# Altium integrated library TI Communication Interface.IntLib: 20 symbols
Pins are listed as number, name and electrical type; pins without a type are passive.

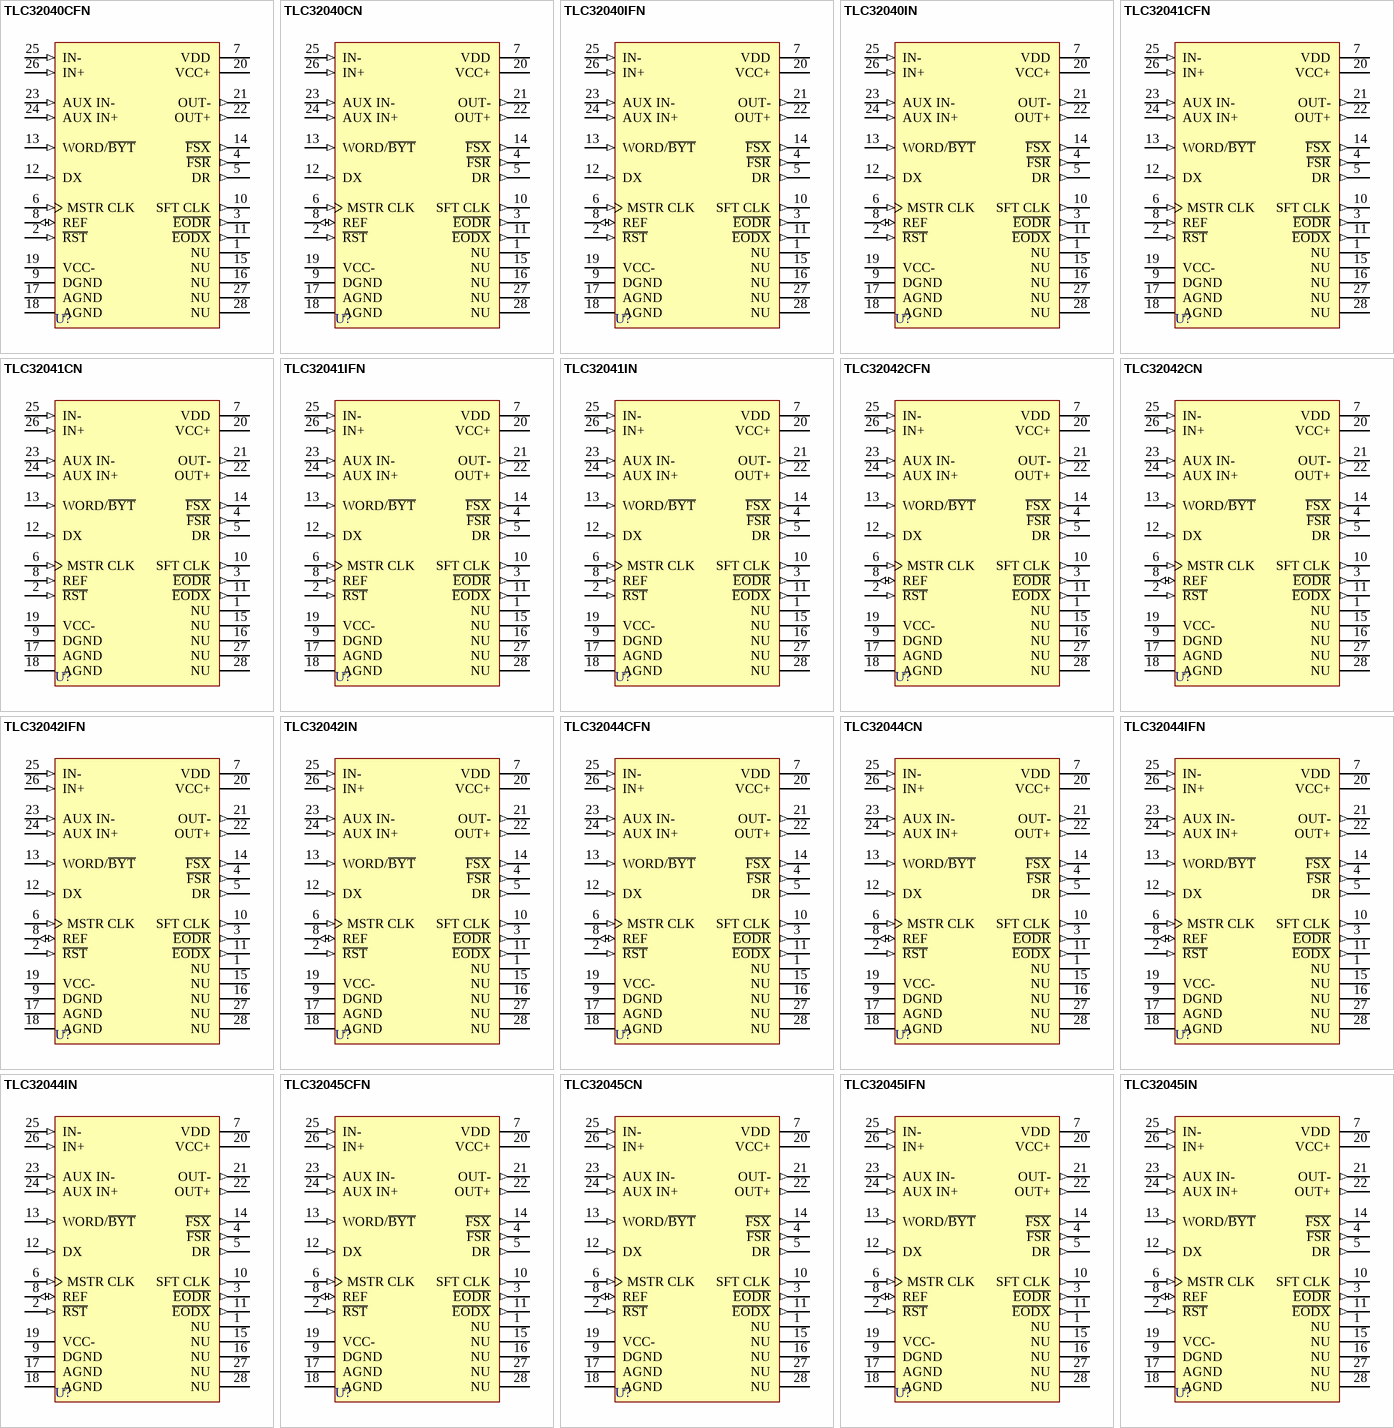
[diagram p0: symbols TLC32040CFN to TLC32045IN]

## TLC32040CFN
designator U?
Analog Interface Circuit; Note: Pins 1, 15, 16, 27 & 28 are nonusable, do not connect.; ComponentAvailability: Obsolete; Published: 15-Apr-2002; LatestRevisionDate: 13-Apr-2006; LatestRevisionNote: IPC-7351 Footprint Added.; DatasheetVersion: Sep-1988; PackageVersion: Oct-1994; PackageReference: FN028; Publisher: Altium Limited; PackageDescription: 28-Pin Leaded Chip Carrier 1.27 mm Pitch; Code_JEDEC: MS-018; Code_IPC: PLCC-28; ComponentLink1Description: Manufacturer Link; ComponentLink1URL: http://www.ti.com/; ComponentLink2Description: Datasheet; ComponentLink2URL: http://www-s.ti.com/sc/ds/tlc32040.pdf
footprint FN028_N (Leaded Chip Carrier, 28-Leads, Body 11.5x11.5mm, Pitch 1.27mm, IPC Medium Density)
footprint FN028_L (Leaded Chip Carrier, 28-Leads, Body 11.5x11.5mm, Pitch 1.27mm, IPC High Density)
footprint FN028_M (Leaded Chip Carrier, 28-Leads, Body 11.5x11.5mm, Pitch 1.27mm, IPC Low Density)
3D model TLC32040-FN028 (28-Pin Leaded Chip Carrier 1.27 mm Pitch)
pins: 1 NU, 2 ~{RST} (in), 3 ~{EODR} (out), 4 ~{FSR} (out), 5 DR (out), 6 MSTR CLK (in), 7 VDD (power), 8 REF (io), 9 DGND (power), 10 SFT CLK (out), 11 ~{EODX} (out), 12 DX (in), 13 WORD/~{BYT} (in), 14 ~{FSX} (out), 15 NU, 16 NU, 17 AGND (power), 18 AGND (power), 19 VCC- (power), 20 VCC+ (power), 21 OUT- (out), 22 OUT+ (out), 23 AUX IN- (in), 24 AUX IN+ (in), 25 IN- (in), 26 IN+ (in), 27 NU, 28 NU

## TLC32040CN
designator U?
Analog Interface Circuit; Note: Pins 1, 15, 16, 27 & 28 are nonusable, do not connect.; ComponentAvailability: Obsolete; Published: 15-Apr-2002; LatestRevisionDate: 08-Jul-2005; LatestRevisionNote: Stylized 3D Model Added.; DatasheetVersion: Sep-1988; PackageVersion: Oct-1994; PackageReference: N028; Publisher: Altium Limited; PackageDescription: DIP; 28 Leads; Row Spacing 15.24 mm; Pitch 2.54 mm; ComponentLink1Description: Manufacturer Link; ComponentLink1URL: http://www.ti.com/; ComponentLink2Description: Datasheet; ComponentLink2URL: http://www-s.ti.com/sc/ds/tlc32040.pdf
footprint N028 (DIP; 28 Leads; Row Spacing 15.24 mm; Pitch 2.54 mm)
3D model N028 (DIP; 28 Leads; Row Spacing 15.24 mm; Pitch 2.54 mm)
pins: 1 NU, 2 ~{RST} (in), 3 ~{EODR} (out), 4 ~{FSR} (out), 5 DR (out), 6 MSTR CLK (in), 7 VDD (power), 8 REF (io), 9 DGND (power), 10 SFT CLK (out), 11 ~{EODX} (out), 12 DX (in), 13 WORD/~{BYT} (in), 14 ~{FSX} (out), 15 NU, 16 NU, 17 AGND (power), 18 AGND (power), 19 VCC- (power), 20 VCC+ (power), 21 OUT- (out), 22 OUT+ (out), 23 AUX IN- (in), 24 AUX IN+ (in), 25 IN- (in), 26 IN+ (in), 27 NU, 28 NU

## TLC32040IFN
designator U?
Analog Interface Circuit; Note: Pins 1, 15, 16, 27 & 28 are nonusable, do not connect.; Published: 15-Apr-2002; LatestRevisionDate: 13-Apr-2006; LatestRevisionNote: IPC-7351 Footprint Added.; DatasheetVersion: Sep-1988; PackageVersion: Oct-1994; PackageReference: FN028; Publisher: Altium Limited; PackageDescription: 28-Pin Leaded Chip Carrier 1.27 mm Pitch; Code_JEDEC: MS-018; Code_IPC: PLCC-28; ComponentLink1Description: Manufacturer Link; ComponentLink1URL: http://www.ti.com/; ComponentLink2Description: Datasheet; ComponentLink2URL: http://www-s.ti.com/sc/ds/tlc32040.pdf
footprint FN028_N (Leaded Chip Carrier, 28-Leads, Body 11.5x11.5mm, Pitch 1.27mm, IPC Medium Density)
footprint FN028_L (Leaded Chip Carrier, 28-Leads, Body 11.5x11.5mm, Pitch 1.27mm, IPC High Density)
footprint FN028_M (Leaded Chip Carrier, 28-Leads, Body 11.5x11.5mm, Pitch 1.27mm, IPC Low Density)
3D model TLC32040-FN028 (28-Pin Leaded Chip Carrier 1.27 mm Pitch)
pins: 1 NU, 2 ~{RST} (in), 3 ~{EODR} (out), 4 ~{FSR} (out), 5 DR (out), 6 MSTR CLK (in), 7 VDD (power), 8 REF (io), 9 DGND (power), 10 SFT CLK (out), 11 ~{EODX} (out), 12 DX (in), 13 WORD/~{BYT} (in), 14 ~{FSX} (out), 15 NU, 16 NU, 17 AGND (power), 18 AGND (power), 19 VCC- (power), 20 VCC+ (power), 21 OUT- (out), 22 OUT+ (out), 23 AUX IN- (in), 24 AUX IN+ (in), 25 IN- (in), 26 IN+ (in), 27 NU, 28 NU

## TLC32040IN
designator U?
Analog Interface Circuit; Note: Pins 1, 15, 16, 27 & 28 are nonusable, do not connect.; ComponentAvailability: Obsolete; Published: 15-Apr-2002; LatestRevisionDate: 08-Jul-2005; LatestRevisionNote: Stylized 3D Model Added.; DatasheetVersion: Sep-1988; PackageVersion: Oct-1994; PackageReference: N028; Publisher: Altium Limited; PackageDescription: DIP; 28 Leads; Row Spacing 15.24 mm; Pitch 2.54 mm; ComponentLink1Description: Manufacturer Link; ComponentLink1URL: http://www.ti.com/; ComponentLink2Description: Datasheet; ComponentLink2URL: http://www-s.ti.com/sc/ds/tlc32040.pdf
footprint N028 (DIP; 28 Leads; Row Spacing 15.24 mm; Pitch 2.54 mm)
3D model N028 (DIP; 28 Leads; Row Spacing 15.24 mm; Pitch 2.54 mm)
pins: 1 NU, 2 ~{RST} (in), 3 ~{EODR} (out), 4 ~{FSR} (out), 5 DR (out), 6 MSTR CLK (in), 7 VDD (power), 8 REF (io), 9 DGND (power), 10 SFT CLK (out), 11 ~{EODX} (out), 12 DX (in), 13 WORD/~{BYT} (in), 14 ~{FSX} (out), 15 NU, 16 NU, 17 AGND (power), 18 AGND (power), 19 VCC- (power), 20 VCC+ (power), 21 OUT- (out), 22 OUT+ (out), 23 AUX IN- (in), 24 AUX IN+ (in), 25 IN- (in), 26 IN+ (in), 27 NU, 28 NU

## TLC32041CFN
designator U?
Analog Interface Circuit; Note: Pins 1, 15, 16, 27 & 28 are nonusable, do not connect.; Published: 15-Apr-2002; LatestRevisionDate: 13-Apr-2006; LatestRevisionNote: IPC-7351 Footprint Added.; DatasheetVersion: Sep-1988; PackageVersion: Oct-1994; PackageReference: FN028; Publisher: Altium Limited; PackageDescription: 28-Pin Leaded Chip Carrier 1.27 mm Pitch; Code_JEDEC: MS-018; Code_IPC: PLCC-28; ComponentLink1Description: Manufacturer Link; ComponentLink1URL: http://www.ti.com/; ComponentLink2Description: Datasheet; ComponentLink2URL: http://www-s.ti.com/sc/ds/tlc32041.pdf
footprint FN028_N (Leaded Chip Carrier, 28-Leads, Body 11.5x11.5mm, Pitch 1.27mm, IPC Medium Density)
footprint FN028_L (Leaded Chip Carrier, 28-Leads, Body 11.5x11.5mm, Pitch 1.27mm, IPC High Density)
footprint FN028_M (Leaded Chip Carrier, 28-Leads, Body 11.5x11.5mm, Pitch 1.27mm, IPC Low Density)
3D model TLC32041-FN028 (28-Pin Leaded Chip Carrier 1.27 mm Pitch)
pins: 1 NU, 2 ~{RST} (in), 3 ~{EODR} (out), 4 ~{FSR} (out), 5 DR (out), 6 MSTR CLK (in), 7 VDD (power), 8 REF (in), 9 DGND (power), 10 SFT CLK (out), 11 ~{EODX} (out), 12 DX (in), 13 WORD/~{BYT} (in), 14 ~{FSX} (out), 15 NU, 16 NU, 17 AGND (power), 18 AGND (power), 19 VCC- (power), 20 VCC+ (power), 21 OUT- (out), 22 OUT+ (out), 23 AUX IN- (in), 24 AUX IN+ (in), 25 IN- (in), 26 IN+ (in), 27 NU, 28 NU

## TLC32041CN
designator U?
Analog Interface Circuit; Note: Pins 1, 15, 16, 27 & 28 are nonusable, do not connect.; ComponentAvailability: Obsolete; Published: 15-Apr-2002; LatestRevisionDate: 08-Jul-2005; LatestRevisionNote: Stylized 3D Model Added.; DatasheetVersion: Sep-1988; PackageVersion: Oct-1994; PackageReference: N028; Publisher: Altium Limited; PackageDescription: DIP; 28 Leads; Row Spacing 15.24 mm; Pitch 2.54 mm; ComponentLink1Description: Manufacturer Link; ComponentLink1URL: http://www.ti.com/; ComponentLink2Description: Datasheet; ComponentLink2URL: http://www-s.ti.com/sc/ds/tlc32041.pdf
footprint N028 (DIP; 28 Leads; Row Spacing 15.24 mm; Pitch 2.54 mm)
3D model N028 (DIP; 28 Leads; Row Spacing 15.24 mm; Pitch 2.54 mm)
pins: 1 NU, 2 ~{RST} (in), 3 ~{EODR} (out), 4 ~{FSR} (out), 5 DR (out), 6 MSTR CLK (in), 7 VDD (power), 8 REF (in), 9 DGND (power), 10 SFT CLK (out), 11 ~{EODX} (out), 12 DX (in), 13 WORD/~{BYT} (in), 14 ~{FSX} (out), 15 NU, 16 NU, 17 AGND (power), 18 AGND (power), 19 VCC- (power), 20 VCC+ (power), 21 OUT- (out), 22 OUT+ (out), 23 AUX IN- (in), 24 AUX IN+ (in), 25 IN- (in), 26 IN+ (in), 27 NU, 28 NU

## TLC32041IFN
designator U?
Analog Interface Circuit; Note: Pins 1, 15, 16, 27 & 28 are nonusable, do not connect.; Published: 15-Apr-2002; LatestRevisionDate: 13-Apr-2006; LatestRevisionNote: IPC-7351 Footprint Added.; DatasheetVersion: Sep-1988; PackageVersion: Oct-1994; PackageReference: FN028; Publisher: Altium Limited; PackageDescription: 28-Pin Leaded Chip Carrier 1.27 mm Pitch; Code_JEDEC: MS-018; Code_IPC: PLCC-28; ComponentLink1Description: Manufacturer Link; ComponentLink1URL: http://www.ti.com/; ComponentLink2Description: Datasheet; ComponentLink2URL: http://www-s.ti.com/sc/ds/tlc32041.pdf
footprint FN028_N (Leaded Chip Carrier, 28-Leads, Body 11.5x11.5mm, Pitch 1.27mm, IPC Medium Density)
footprint FN028_L (Leaded Chip Carrier, 28-Leads, Body 11.5x11.5mm, Pitch 1.27mm, IPC High Density)
footprint FN028_M (Leaded Chip Carrier, 28-Leads, Body 11.5x11.5mm, Pitch 1.27mm, IPC Low Density)
3D model TLC32041-FN028 (28-Pin Leaded Chip Carrier 1.27 mm Pitch)
pins: 1 NU, 2 ~{RST} (in), 3 ~{EODR} (out), 4 ~{FSR} (out), 5 DR (out), 6 MSTR CLK (in), 7 VDD (power), 8 REF (in), 9 DGND (power), 10 SFT CLK (out), 11 ~{EODX} (out), 12 DX (in), 13 WORD/~{BYT} (in), 14 ~{FSX} (out), 15 NU, 16 NU, 17 AGND (power), 18 AGND (power), 19 VCC- (power), 20 VCC+ (power), 21 OUT- (out), 22 OUT+ (out), 23 AUX IN- (in), 24 AUX IN+ (in), 25 IN- (in), 26 IN+ (in), 27 NU, 28 NU

## TLC32041IN
designator U?
Analog Interface Circuit; Note: Pins 1, 15, 16, 27 & 28 are nonusable, do not connect.; ComponentAvailability: Obsolete; Published: 15-Apr-2002; LatestRevisionDate: 08-Jul-2005; LatestRevisionNote: Stylized 3D Model Added.; DatasheetVersion: Sep-1988; PackageVersion: Oct-1994; PackageReference: N028; Publisher: Altium Limited; PackageDescription: DIP; 28 Leads; Row Spacing 15.24 mm; Pitch 2.54 mm; ComponentLink1Description: Manufacturer Link; ComponentLink1URL: http://www.ti.com/; ComponentLink2Description: Datasheet; ComponentLink2URL: http://www-s.ti.com/sc/ds/tlc32041.pdf
footprint N028 (DIP; 28 Leads; Row Spacing 15.24 mm; Pitch 2.54 mm)
3D model N028 (DIP; 28 Leads; Row Spacing 15.24 mm; Pitch 2.54 mm)
pins: 1 NU, 2 ~{RST} (in), 3 ~{EODR} (out), 4 ~{FSR} (out), 5 DR (out), 6 MSTR CLK (in), 7 VDD (power), 8 REF (in), 9 DGND (power), 10 SFT CLK (out), 11 ~{EODX} (out), 12 DX (in), 13 WORD/~{BYT} (in), 14 ~{FSX} (out), 15 NU, 16 NU, 17 AGND (power), 18 AGND (power), 19 VCC- (power), 20 VCC+ (power), 21 OUT- (out), 22 OUT+ (out), 23 AUX IN- (in), 24 AUX IN+ (in), 25 IN- (in), 26 IN+ (in), 27 NU, 28 NU

## TLC32042CFN
designator U?
Analog Interface Circuit; Note: Pins 1, 15, 16, 27 & 28 are nonusable, do not connect.; Published: 15-Apr-2002; LatestRevisionDate: 13-Apr-2006; LatestRevisionNote: IPC-7351 Footprint Added.; DatasheetVersion: Sep-1988; PackageVersion: Oct-1994; PackageReference: FN028; Publisher: Altium Limited; PackageDescription: 28-Pin Leaded Chip Carrier 1.27 mm Pitch; Code_JEDEC: MS-018; Code_IPC: PLCC-28; ComponentLink1Description: Manufacturer Link; ComponentLink1URL: http://www.ti.com/
footprint FN028_N (Leaded Chip Carrier, 28-Leads, Body 11.5x11.5mm, Pitch 1.27mm, IPC Medium Density)
footprint FN028_L (Leaded Chip Carrier, 28-Leads, Body 11.5x11.5mm, Pitch 1.27mm, IPC High Density)
footprint FN028_M (Leaded Chip Carrier, 28-Leads, Body 11.5x11.5mm, Pitch 1.27mm, IPC Low Density)
3D model TLC32042-FN028 (28-Pin Leaded Chip Carrier 1.27 mm Pitch)
pins: 1 NU, 2 ~{RST} (in), 3 ~{EODR} (out), 4 ~{FSR} (out), 5 DR (out), 6 MSTR CLK (in), 7 VDD (power), 8 REF (io), 9 DGND (power), 10 SFT CLK (out), 11 ~{EODX} (out), 12 DX (in), 13 WORD/~{BYT} (in), 14 ~{FSX} (out), 15 NU, 16 NU, 17 AGND (power), 18 AGND (power), 19 VCC- (power), 20 VCC+ (power), 21 OUT- (out), 22 OUT+ (out), 23 AUX IN- (in), 24 AUX IN+ (in), 25 IN- (in), 26 IN+ (in), 27 NU, 28 NU

## TLC32042CN
designator U?
Analog Interface Circuit; Note: Pins 1, 15, 16, 27 & 28 are nonusable, do not connect.; Published: 15-Apr-2002; LatestRevisionDate: 08-Jul-2005; LatestRevisionNote: Stylized 3D Model Added.; DatasheetVersion: Sep-1988; PackageVersion: Oct-1994; PackageReference: N028; Publisher: Altium Limited; PackageDescription: DIP; 28 Leads; Row Spacing 15.24 mm; Pitch 2.54 mm; ComponentLink1Description: Manufacturer Link; ComponentLink1URL: http://www.ti.com/
footprint N028 (DIP; 28 Leads; Row Spacing 15.24 mm; Pitch 2.54 mm)
3D model N028 (DIP; 28 Leads; Row Spacing 15.24 mm; Pitch 2.54 mm)
pins: 1 NU, 2 ~{RST} (in), 3 ~{EODR} (out), 4 ~{FSR} (out), 5 DR (out), 6 MSTR CLK (in), 7 VDD (power), 8 REF (io), 9 DGND (power), 10 SFT CLK (out), 11 ~{EODX} (out), 12 DX (in), 13 WORD/~{BYT} (in), 14 ~{FSX} (out), 15 NU, 16 NU, 17 AGND (power), 18 AGND (power), 19 VCC- (power), 20 VCC+ (power), 21 OUT- (out), 22 OUT+ (out), 23 AUX IN- (in), 24 AUX IN+ (in), 25 IN- (in), 26 IN+ (in), 27 NU, 28 NU

## TLC32042IFN
designator U?
Analog Interface Circuit; Note: Pins 1, 15, 16, 27 & 28 are nonusable, do not connect.; Published: 15-Apr-2002; LatestRevisionDate: 13-Apr-2006; LatestRevisionNote: IPC-7351 Footprint Added.; DatasheetVersion: Sep-1988; PackageVersion: Oct-1994; PackageReference: FN028; Publisher: Altium Limited; PackageDescription: 28-Pin Leaded Chip Carrier 1.27 mm Pitch; Code_JEDEC: MS-018; Code_IPC: PLCC-28; ComponentLink1Description: Manufacturer Link; ComponentLink1URL: http://www.ti.com/
footprint FN028_N (Leaded Chip Carrier, 28-Leads, Body 11.5x11.5mm, Pitch 1.27mm, IPC Medium Density)
footprint FN028_L (Leaded Chip Carrier, 28-Leads, Body 11.5x11.5mm, Pitch 1.27mm, IPC High Density)
footprint FN028_M (Leaded Chip Carrier, 28-Leads, Body 11.5x11.5mm, Pitch 1.27mm, IPC Low Density)
3D model TLC32042-FN028 (28-Pin Leaded Chip Carrier 1.27 mm Pitch)
pins: 1 NU, 2 ~{RST} (in), 3 ~{EODR} (out), 4 ~{FSR} (out), 5 DR (out), 6 MSTR CLK (in), 7 VDD (power), 8 REF (io), 9 DGND (power), 10 SFT CLK (out), 11 ~{EODX} (out), 12 DX (in), 13 WORD/~{BYT} (in), 14 ~{FSX} (out), 15 NU, 16 NU, 17 AGND (power), 18 AGND (power), 19 VCC- (power), 20 VCC+ (power), 21 OUT- (out), 22 OUT+ (out), 23 AUX IN- (in), 24 AUX IN+ (in), 25 IN- (in), 26 IN+ (in), 27 NU, 28 NU

## TLC32042IN
designator U?
Analog Interface Circuit; Note: Pins 1, 15, 16, 27 & 28 are nonusable, do not connect.; Published: 15-Apr-2002; LatestRevisionDate: 08-Jul-2005; LatestRevisionNote: Stylized 3D Model Added.; DatasheetVersion: Sep-1988; PackageVersion: Oct-1994; PackageReference: N028; Publisher: Altium Limited; PackageDescription: DIP; 28 Leads; Row Spacing 15.24 mm; Pitch 2.54 mm; ComponentLink1Description: Manufacturer Link; ComponentLink1URL: http://www.ti.com/
footprint N028 (DIP; 28 Leads; Row Spacing 15.24 mm; Pitch 2.54 mm)
3D model N028 (DIP; 28 Leads; Row Spacing 15.24 mm; Pitch 2.54 mm)
pins: 1 NU, 2 ~{RST} (in), 3 ~{EODR} (out), 4 ~{FSR} (out), 5 DR (out), 6 MSTR CLK (in), 7 VDD (power), 8 REF (io), 9 DGND (power), 10 SFT CLK (out), 11 ~{EODX} (out), 12 DX (in), 13 WORD/~{BYT} (in), 14 ~{FSX} (out), 15 NU, 16 NU, 17 AGND (power), 18 AGND (power), 19 VCC- (power), 20 VCC+ (power), 21 OUT- (out), 22 OUT+ (out), 23 AUX IN- (in), 24 AUX IN+ (in), 25 IN- (in), 26 IN+ (in), 27 NU, 28 NU

## TLC32044CFN
designator U?
Voice-Band Analog Interface Circuit; Note: Pins 1, 15, 16, 27 & 28 are nonusable, do not connect.; ComponentAvailability: Obsolete; Published: 15-Apr-2002; LatestRevisionDate: 13-Apr-2006; LatestRevisionNote: IPC-7351 Footprint Added.; DatasheetVersion: Dec-1988; PackageVersion: Oct-1994; PackageReference: FN028; Publisher: Altium Limited; PackageDescription: 28-Pin Leaded Chip Carrier 1.27 mm Pitch; Code_JEDEC: MS-018; Code_IPC: PLCC-28; ComponentLink1Description: Manufacturer Link; ComponentLink1URL: http://www.ti.com/; ComponentLink2Description: Datasheet; ComponentLink2URL: http://www-s.ti.com/sc/ds/tlc32044.pdf
footprint FN028_N (Leaded Chip Carrier, 28-Leads, Body 11.5x11.5mm, Pitch 1.27mm, IPC Medium Density)
footprint FN028_L (Leaded Chip Carrier, 28-Leads, Body 11.5x11.5mm, Pitch 1.27mm, IPC High Density)
footprint FN028_M (Leaded Chip Carrier, 28-Leads, Body 11.5x11.5mm, Pitch 1.27mm, IPC Low Density)
3D model TLC32044-FN028 (28-Pin Leaded Chip Carrier 1.27 mm Pitch)
pins: 1 NU, 2 ~{RST} (in), 3 ~{EODR} (out), 4 ~{FSR} (out), 5 DR (out), 6 MSTR CLK (in), 7 VDD (power), 8 REF (io), 9 DGND (power), 10 SFT CLK (out), 11 ~{EODX} (out), 12 DX (in), 13 WORD/~{BYT} (in), 14 ~{FSX} (out), 15 NU, 16 NU, 17 AGND (power), 18 AGND (power), 19 VCC- (power), 20 VCC+ (power), 21 OUT- (out), 22 OUT+ (out), 23 AUX IN- (in), 24 AUX IN+ (in), 25 IN- (in), 26 IN+ (in), 27 NU, 28 NU

## TLC32044CN
designator U?
Voice-Band Analog Interface Circuit; Note: Pins 1, 15, 16, 27 & 28 are nonusable, do not connect.; ComponentAvailability: Obsolete; Published: 15-Apr-2002; LatestRevisionDate: 08-Jul-2005; LatestRevisionNote: Stylized 3D Model Added.; DatasheetVersion: Dec-1988; PackageVersion: Oct-1994; PackageReference: N028; Publisher: Altium Limited; PackageDescription: DIP; 28 Leads; Row Spacing 15.24 mm; Pitch 2.54 mm; ComponentLink1Description: Manufacturer Link; ComponentLink1URL: http://www.ti.com/; ComponentLink2Description: Datasheet; ComponentLink2URL: http://www-s.ti.com/sc/ds/tlc32044.pdf
footprint N028 (DIP; 28 Leads; Row Spacing 15.24 mm; Pitch 2.54 mm)
3D model N028 (DIP; 28 Leads; Row Spacing 15.24 mm; Pitch 2.54 mm)
pins: 1 NU, 2 ~{RST} (in), 3 ~{EODR} (out), 4 ~{FSR} (out), 5 DR (out), 6 MSTR CLK (in), 7 VDD (power), 8 REF (io), 9 DGND (power), 10 SFT CLK (out), 11 ~{EODX} (out), 12 DX (in), 13 WORD/~{BYT} (in), 14 ~{FSX} (out), 15 NU, 16 NU, 17 AGND (power), 18 AGND (power), 19 VCC- (power), 20 VCC+ (power), 21 OUT- (out), 22 OUT+ (out), 23 AUX IN- (in), 24 AUX IN+ (in), 25 IN- (in), 26 IN+ (in), 27 NU, 28 NU

## TLC32044IFN
designator U?
Voice-Band Analog Interface Circuit; Note: Pins 1, 15, 16, 27 & 28 are nonusable, do not connect.; Published: 15-Apr-2002; LatestRevisionDate: 13-Apr-2006; LatestRevisionNote: IPC-7351 Footprint Added.; DatasheetVersion: Dec-1988; PackageVersion: Oct-1994; PackageReference: FN028; Publisher: Altium Limited; PackageDescription: 28-Pin Leaded Chip Carrier 1.27 mm Pitch; Code_JEDEC: MS-018; Code_IPC: PLCC-28; ComponentLink1Description: Manufacturer Link; ComponentLink1URL: http://www.ti.com/; ComponentLink2Description: Datasheet; ComponentLink2URL: http://www-s.ti.com/sc/ds/tlc32044.pdf
footprint FN028_N (Leaded Chip Carrier, 28-Leads, Body 11.5x11.5mm, Pitch 1.27mm, IPC Medium Density)
footprint FN028_L (Leaded Chip Carrier, 28-Leads, Body 11.5x11.5mm, Pitch 1.27mm, IPC High Density)
footprint FN028_M (Leaded Chip Carrier, 28-Leads, Body 11.5x11.5mm, Pitch 1.27mm, IPC Low Density)
3D model TLC32044-FN028 (28-Pin Leaded Chip Carrier 1.27 mm Pitch)
pins: 1 NU, 2 ~{RST} (in), 3 ~{EODR} (out), 4 ~{FSR} (out), 5 DR (out), 6 MSTR CLK (in), 7 VDD (power), 8 REF (io), 9 DGND (power), 10 SFT CLK (out), 11 ~{EODX} (out), 12 DX (in), 13 WORD/~{BYT} (in), 14 ~{FSX} (out), 15 NU, 16 NU, 17 AGND (power), 18 AGND (power), 19 VCC- (power), 20 VCC+ (power), 21 OUT- (out), 22 OUT+ (out), 23 AUX IN- (in), 24 AUX IN+ (in), 25 IN- (in), 26 IN+ (in), 27 NU, 28 NU

## TLC32044IN
designator U?
Voice-Band Analog Interface Circuit; Note: Pins 1, 15, 16, 27 & 28 are nonusable, do not connect.; ComponentAvailability: Obsolete; Published: 15-Apr-2002; LatestRevisionDate: 08-Jul-2005; LatestRevisionNote: Stylized 3D Model Added.; DatasheetVersion: Dec-1988; PackageVersion: Oct-1994; PackageReference: N028; Publisher: Altium Limited; PackageDescription: DIP; 28 Leads; Row Spacing 15.24 mm; Pitch 2.54 mm; ComponentLink1Description: Manufacturer Link; ComponentLink1URL: http://www.ti.com/; ComponentLink2Description: Datasheet; ComponentLink2URL: http://www-s.ti.com/sc/ds/tlc32044.pdf
footprint N028 (DIP; 28 Leads; Row Spacing 15.24 mm; Pitch 2.54 mm)
3D model N028 (DIP; 28 Leads; Row Spacing 15.24 mm; Pitch 2.54 mm)
pins: 1 NU, 2 ~{RST} (in), 3 ~{EODR} (out), 4 ~{FSR} (out), 5 DR (out), 6 MSTR CLK (in), 7 VDD (power), 8 REF (io), 9 DGND (power), 10 SFT CLK (out), 11 ~{EODX} (out), 12 DX (in), 13 WORD/~{BYT} (in), 14 ~{FSX} (out), 15 NU, 16 NU, 17 AGND (power), 18 AGND (power), 19 VCC- (power), 20 VCC+ (power), 21 OUT- (out), 22 OUT+ (out), 23 AUX IN- (in), 24 AUX IN+ (in), 25 IN- (in), 26 IN+ (in), 27 NU, 28 NU

## TLC32045CFN
designator U?
Voice-Band Analog Interface Circuit; Note: Pins 1, 15, 16, 27 & 28 are nonusable, do not connect.; ComponentAvailability: Obsolete; Published: 15-Apr-2002; LatestRevisionDate: 13-Apr-2006; LatestRevisionNote: IPC-7351 Footprint Added.; DatasheetVersion: Dec-1988; PackageVersion: Oct-1994; PackageReference: FN028; Publisher: Altium Limited; PackageDescription: 28-Pin Leaded Chip Carrier 1.27 mm Pitch; Code_JEDEC: MS-018; Code_IPC: PLCC-28; ComponentLink1Description: Manufacturer Link; ComponentLink1URL: http://www.ti.com/; ComponentLink2Description: Datasheet; ComponentLink2URL: http://www-s.ti.com/sc/ds/tlc32045.pdf
footprint FN028_N (Leaded Chip Carrier, 28-Leads, Body 11.5x11.5mm, Pitch 1.27mm, IPC Medium Density)
footprint FN028_L (Leaded Chip Carrier, 28-Leads, Body 11.5x11.5mm, Pitch 1.27mm, IPC High Density)
footprint FN028_M (Leaded Chip Carrier, 28-Leads, Body 11.5x11.5mm, Pitch 1.27mm, IPC Low Density)
3D model TLC32045-FN028 (28-Pin Leaded Chip Carrier 1.27 mm Pitch)
pins: 1 NU, 2 ~{RST} (in), 3 ~{EODR} (out), 4 ~{FSR} (out), 5 DR (out), 6 MSTR CLK (in), 7 VDD (power), 8 REF (io), 9 DGND (power), 10 SFT CLK (out), 11 ~{EODX} (out), 12 DX (in), 13 WORD/~{BYT} (in), 14 ~{FSX} (out), 15 NU, 16 NU, 17 AGND (power), 18 AGND (power), 19 VCC- (power), 20 VCC+ (power), 21 OUT- (out), 22 OUT+ (out), 23 AUX IN- (in), 24 AUX IN+ (in), 25 IN- (in), 26 IN+ (in), 27 NU, 28 NU

## TLC32045CN
designator U?
Voice-Band Analog Interface Circuit; Note: Pins 1, 15, 16, 27 & 28 are nonusable, do not connect.; ComponentAvailability: Obsolete; Published: 15-Apr-2002; LatestRevisionDate: 08-Jul-2005; LatestRevisionNote: Stylized 3D Model Added.; DatasheetVersion: Dec-1988; PackageVersion: Oct-1994; PackageReference: N028; Publisher: Altium Limited; PackageDescription: DIP; 28 Leads; Row Spacing 15.24 mm; Pitch 2.54 mm; ComponentLink1Description: Manufacturer Link; ComponentLink1URL: http://www.ti.com/; ComponentLink2Description: Datasheet; ComponentLink2URL: http://www-s.ti.com/sc/ds/tlc32045.pdf
footprint N028 (DIP; 28 Leads; Row Spacing 15.24 mm; Pitch 2.54 mm)
3D model N028 (DIP; 28 Leads; Row Spacing 15.24 mm; Pitch 2.54 mm)
pins: 1 NU, 2 ~{RST} (in), 3 ~{EODR} (out), 4 ~{FSR} (out), 5 DR (out), 6 MSTR CLK (in), 7 VDD (power), 8 REF (io), 9 DGND (power), 10 SFT CLK (out), 11 ~{EODX} (out), 12 DX (in), 13 WORD/~{BYT} (in), 14 ~{FSX} (out), 15 NU, 16 NU, 17 AGND (power), 18 AGND (power), 19 VCC- (power), 20 VCC+ (power), 21 OUT- (out), 22 OUT+ (out), 23 AUX IN- (in), 24 AUX IN+ (in), 25 IN- (in), 26 IN+ (in), 27 NU, 28 NU

## TLC32045IFN
designator U?
Voice-Band Analog Interface Circuit; Note: Pins 1, 15, 16, 27 & 28 are nonusable, do not connect.; ComponentAvailability: Obsolete; Published: 15-Apr-2002; LatestRevisionDate: 13-Apr-2006; LatestRevisionNote: IPC-7351 Footprint Added.; DatasheetVersion: Dec-1988; PackageVersion: Oct-1994; PackageReference: FN028; Publisher: Altium Limited; PackageDescription: 28-Pin Leaded Chip Carrier 1.27 mm Pitch; Code_JEDEC: MS-018; Code_IPC: PLCC-28; ComponentLink1Description: Manufacturer Link; ComponentLink1URL: http://www.ti.com/; ComponentLink2Description: Datasheet; ComponentLink2URL: http://www-s.ti.com/sc/ds/tlc32045.pdf
footprint FN028_N (Leaded Chip Carrier, 28-Leads, Body 11.5x11.5mm, Pitch 1.27mm, IPC Medium Density)
footprint FN028_L (Leaded Chip Carrier, 28-Leads, Body 11.5x11.5mm, Pitch 1.27mm, IPC High Density)
footprint FN028_M (Leaded Chip Carrier, 28-Leads, Body 11.5x11.5mm, Pitch 1.27mm, IPC Low Density)
3D model TLC32045-FN028 (28-Pin Leaded Chip Carrier 1.27 mm Pitch)
pins: 1 NU, 2 ~{RST} (in), 3 ~{EODR} (out), 4 ~{FSR} (out), 5 DR (out), 6 MSTR CLK (in), 7 VDD (power), 8 REF (io), 9 DGND (power), 10 SFT CLK (out), 11 ~{EODX} (out), 12 DX (in), 13 WORD/~{BYT} (in), 14 ~{FSX} (out), 15 NU, 16 NU, 17 AGND (power), 18 AGND (power), 19 VCC- (power), 20 VCC+ (power), 21 OUT- (out), 22 OUT+ (out), 23 AUX IN- (in), 24 AUX IN+ (in), 25 IN- (in), 26 IN+ (in), 27 NU, 28 NU

## TLC32045IN
designator U?
Voice-Band Analog Interface Circuit; Note: Pins 1, 15, 16, 27 & 28 are nonusable, do not connect.; Published: 15-Apr-2002; LatestRevisionDate: 08-Jul-2005; LatestRevisionNote: Stylized 3D Model Added.; DatasheetVersion: Dec-1988; PackageVersion: Oct-1994; PackageReference: N028; Publisher: Altium Limited; PackageDescription: DIP; 28 Leads; Row Spacing 15.24 mm; Pitch 2.54 mm; ComponentLink1Description: Manufacturer Link; ComponentLink1URL: http://www.ti.com/; ComponentLink2Description: Datasheet; ComponentLink2URL: http://www-s.ti.com/sc/ds/tlc32045.pdf
footprint N028 (DIP; 28 Leads; Row Spacing 15.24 mm; Pitch 2.54 mm)
3D model N028 (DIP; 28 Leads; Row Spacing 15.24 mm; Pitch 2.54 mm)
pins: 1 NU, 2 ~{RST} (in), 3 ~{EODR} (out), 4 ~{FSR} (out), 5 DR (out), 6 MSTR CLK (in), 7 VDD (power), 8 REF (io), 9 DGND (power), 10 SFT CLK (out), 11 ~{EODX} (out), 12 DX (in), 13 WORD/~{BYT} (in), 14 ~{FSX} (out), 15 NU, 16 NU, 17 AGND (power), 18 AGND (power), 19 VCC- (power), 20 VCC+ (power), 21 OUT- (out), 22 OUT+ (out), 23 AUX IN- (in), 24 AUX IN+ (in), 25 IN- (in), 26 IN+ (in), 27 NU, 28 NU